# EAGLE library part 5-104069-4 (library elcanoParts)
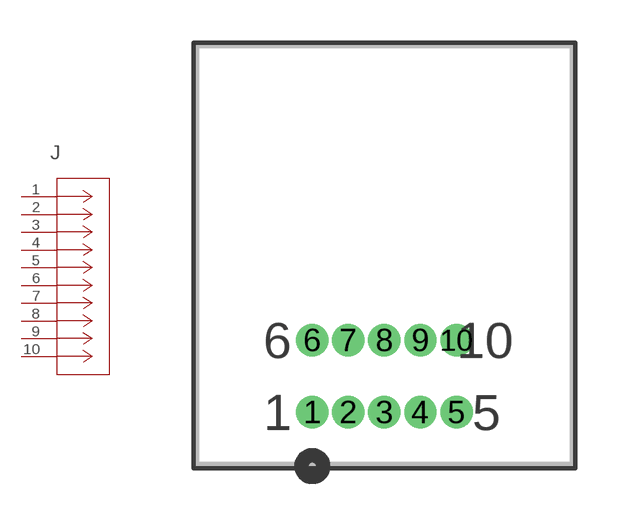
[diagram p9: symbol with the pads of CONN_5-104069-4_TYCO; footprint CONN_5-104069-4_TYCO]

Designator prefix J

## 5-104069-4 (MANUFACTURER_PART_NUMBER: 51040694; VENDOR: TE Connectivity)  [CONN_5-104069-4_TYCO]
1  1  pas
2  2  pas
3  3  pas
4  4  pas
5  5  pas
6  6  pas
7  7  pas
8  8  pas
9  9  pas
10  10  pas

## Footprint CONN_5-104069-4_TYCO (pad centres in mm)
drill 0.635 pad 1.143: 1 -5.08,-2.54; 2 -3.81,-2.54; 3 -2.54,-2.54; 4 -1.27,-2.54; 5 0,-2.54; 6 -5.08,0; 7 -3.81,0; 8 -2.54,0; 9 -1.27,0; 10 0,0